# Altium footprint library 165mm-v1.PcbLib: 63 footprints (part 3 of 4)
Each footprint in its own frame and in the unit in brackets; x right, y up, seen from the top. Pads: shape width x height; smd on the part's side, far side on the other; paste and mask are expansions set on the pad; w line width, h text height; cw(c..) or ccw(c..) is an arc to the next point about the centre after c.
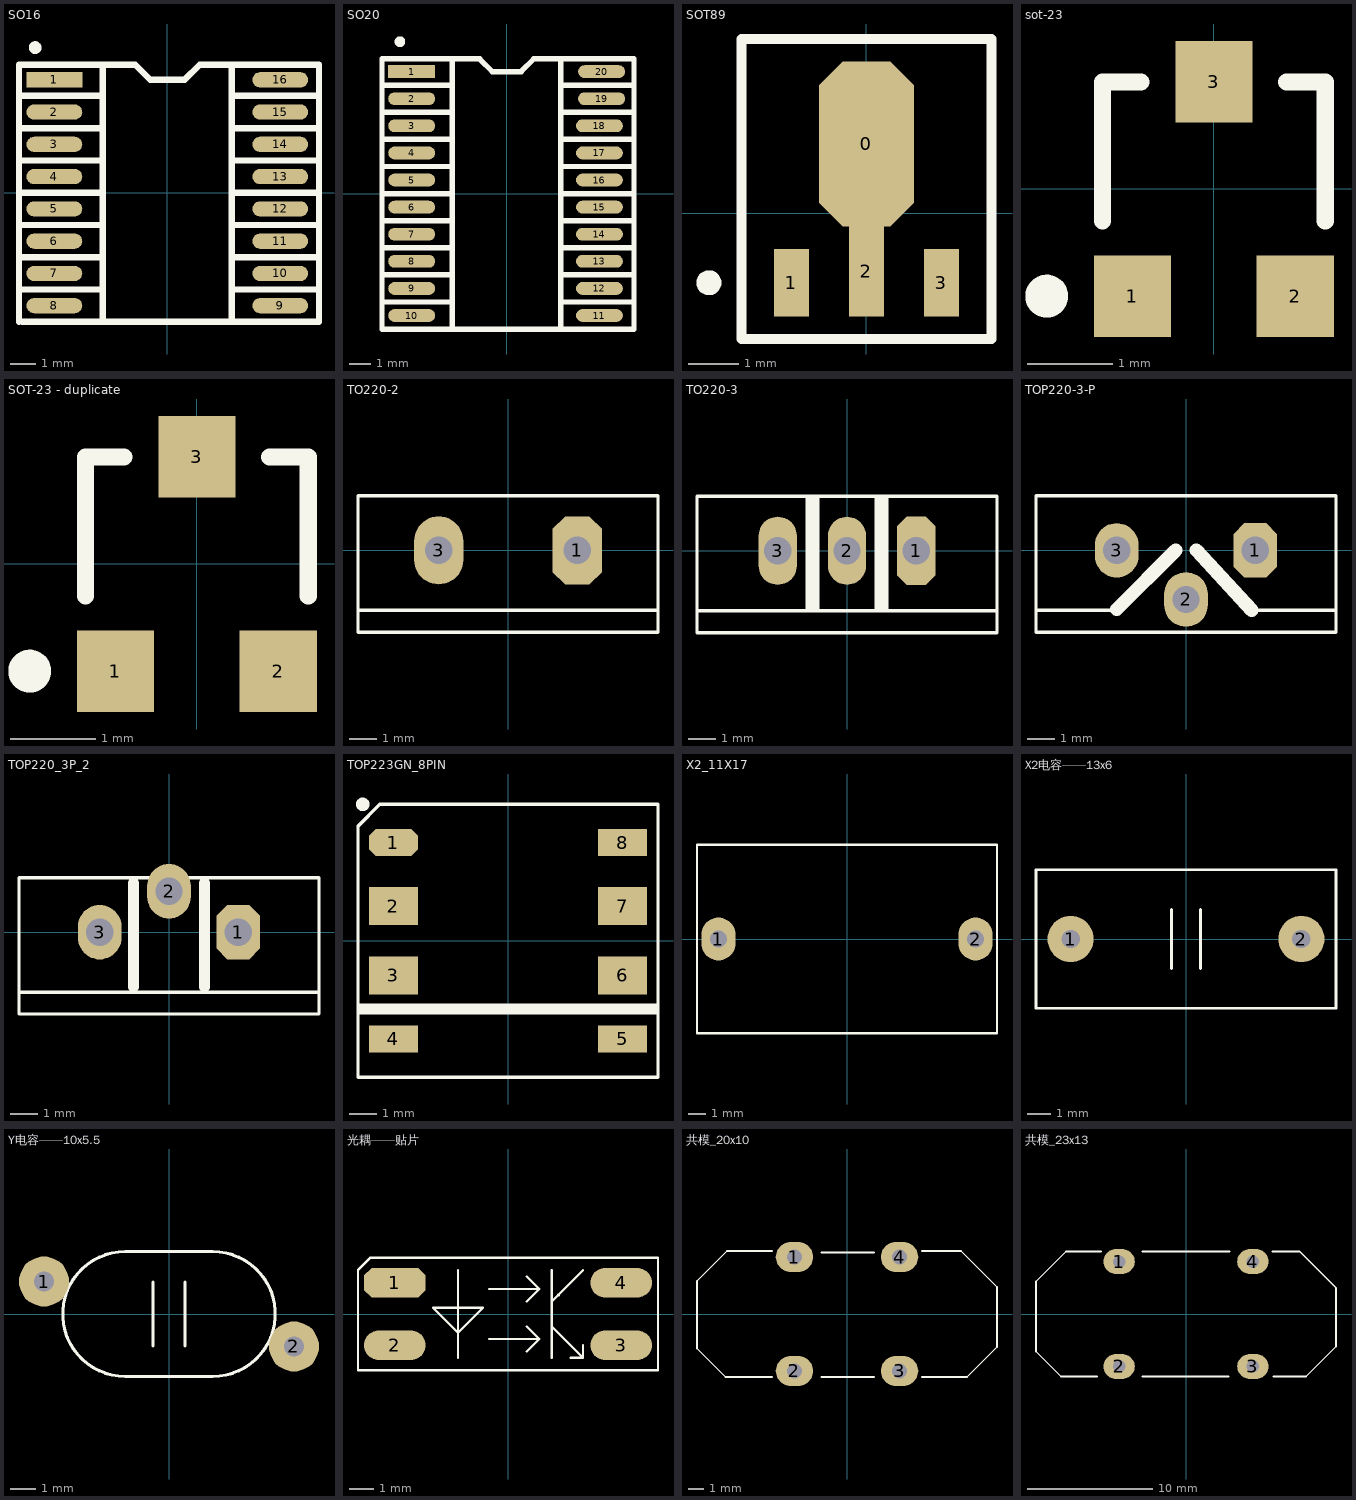
[diagram p2: the footprints below, top view; thin cyan lines are the x and y axes]

## SO16 [mm]
pads (16):
  rect 2.2x0.6 smd: 1(-4.447,4.445)
  oval 2.2x0.6 smd: 2(-4.447,3.175) 3(-4.447,1.905) 4(-4.447,0.635) 5(-4.447,-0.635) 6(-4.447,-1.905) 7(-4.447,-3.175) 8(-4.447,-4.445) 9(4.447,-4.445) 10(4.447,-3.175) 11(4.447,-1.905) 12(4.447,-0.635) 13(4.447,0.635) 14(4.447,1.905) 15(4.447,3.175) 16(4.447,4.445)
Top Overlay:
  circle w0.25: c-5.205,5.715 r0.125
  lines w0.254: -5.84,-5.08 -5.84,5.04 -2.538,5.04 ; -5.84,-3.81 -2.538,-3.81 ; -5.84,-2.54 -2.538,-2.54 ; -5.84,-1.27 -2.538,-1.27 ; -5.84,0 -2.538,0 ; -5.84,1.27 -2.538,1.27 ; -5.84,2.54 -2.538,2.54 ; -5.84,3.81 -2.538,3.81 ; -5.713,-5.08 -2.538,-5.08 ; 2.542,-3.81 5.971,-3.81 ; 2.542,-2.54 5.971,-2.54 ; 2.542,-1.27 5.971,-1.27 ; 2.542,0 5.971,0 ; 2.542,1.27 5.971,1.27 ; 2.542,2.54 5.971,2.54 ; 2.542,3.81 5.971,3.81 ; -2.538,-5.08 -2.538,5.04 ; -2.538,-5.08 2.542,-5.08 ; -2.538,5.04 -1.268,5.04 -0.673,4.445 0.677,4.445 1.272,5.04 2.542,5.04 ; 2.542,-5.08 5.971,-5.08 5.971,5.04 2.542,5.04 ; 2.542,-5.08 2.542,5.04

## SO20 [mm]
height 25
pads (20):
  rect 2.2x0.6 smd: 1(-4.45,5.715)
  oval 2.2x0.6 smd: 2(-4.45,4.445) 3(-4.45,3.175) 4(-4.45,1.905) 5(-4.45,0.635) 6(-4.45,-0.635) 7(-4.45,-1.905) 8(-4.45,-3.175) 9(-4.45,-4.445) 10(-4.45,-5.715) 11(4.35,-5.715) 12(4.35,-4.445) 13(4.35,-3.175) 14(4.35,-1.905) 15(4.35,-0.635) 16(4.35,0.635) 17(4.35,1.905) 18(4.35,3.175) 19(4.45,4.445) 20(4.45,5.715)
Top Overlay:
  circle w0.25: c-5.004,7.119 r0.125
  lines w0.254: -5.842,-5.08 -2.54,-5.08 ; -5.842,-2.54 -2.54,-2.54 ; -5.842,-1.27 -2.54,-1.27 ; -5.842,0 -2.54,0 ; -5.842,1.27 -2.54,1.27 ; -5.842,2.54 -2.54,2.54 ; -5.842,3.81 -2.54,3.81 ; -5.842,5.08 -2.54,5.08 ; -5.715,-3.81 -2.54,-3.81 ; 2.54,-5.08 5.969,-5.08 ; 2.54,-3.81 5.969,-3.81 ; 2.54,-2.54 5.969,-2.54 ; 2.54,-1.27 5.969,-1.27 ; 2.54,0 5.969,0 ; 2.54,1.27 5.969,1.27 ; 2.54,2.54 5.969,2.54 ; 2.54,3.81 5.969,3.81 ; 2.54,5.08 5.969,5.08 ; -2.54,-6.35 2.54,-6.35 ; -2.54,-6.35 -5.842,-6.35 -5.842,6.31 -2.54,6.31 ; -2.54,-6.35 -2.54,6.31 ; -2.54,6.31 -1.27,6.31 -0.675,5.715 0.675,5.715 1.27,6.31 2.54,6.31 ; 2.54,-6.35 5.969,-6.35 5.969,6.31 2.54,6.31 ; 2.54,-6.35 2.54,6.31

## SOT89 [mm] "SOT-89; Body 4.6 x 4.25 mm, inc. leads (LxW max)"
height 1.6
pads (4):
  oct 1.9x3.3 smd: 0(0,1.388)
  rect 0.7x1.35 smd: 1(-1.5,-1.388) 3(1.5,-1.388)
  rect 0.7x1.8 smd: 2(0,-1.162)
Top Overlay:
  circle w0.25: c-3.15,-1.388 r0.125
  lines w0.2: -2.5,-2.512 -2.5,3.487 2.5,3.487 2.5,-2.512 -2.5,-2.512

## sot-23 [mm] "SOT-23; 3 Leads; Body 3.0 x 2.6 mm, inc. leads (LxW max)"
height 1.1
pads (3):
  rect 0.9x0.95 smd: 1(-0.95,-1.25) 2(0.95,-1.25) 3(0,1.25)
Top Overlay:
  circle w0.25: c-1.95,-1.25 r0.125
  lines w0.2: -1.3,-0.375 -1.3,1.25 -0.85,1.25 ; 0.85,1.25 1.3,1.25 1.3,-0.375

## SOT-23 - duplicate [mm]
pads (3):
  rect 0.9x0.95 smd: 1(-0.95,-1.25) 2(0.95,-1.25) 3(0,1.25)
Top Overlay:
  circle w0.25: c-1.95,-1.25 r0.125
  lines w0.2: -1.3,-0.375 -1.3,1.25 -0.85,1.25 ; 0.85,1.25 1.3,1.25 1.3,-0.375

## TO220-2 [mm]
pads (2):
  oct 1.8x2.5 hole 1: 1(2.54,0)
  oval 1.8x2.5 hole 1: 3(-2.54,0)
Top Overlay:
  lines w0.127: -5.5,-2.2 5.5,-2.2 ; -5.5,-3 -5.5,2 5.5,2 5.5,-3 -5.5,-3

## TO220-3 [mm]
pads (3):
  oct 1.4x2.5 hole 1: 1(2.54,0)
  oval 1.4x2.5 hole 1: 2(0,0) 3(-2.54,0)
Top Overlay:
  rectangle: -1.524,-2.2 -1.016,2
  rectangle: 1.016,-2.2 1.524,2
  lines w0.127: -5.5,-2.2 5.5,-2.2 ; -5.5,-3 -5.5,2 5.5,2 5.5,-3 -5.5,-3
Bottom Overlay:
  rectangle: -1.524,-2.159 -1.016,2.032
  rectangle: 1.016,-2.159 1.524,2.032

## TOP220-3-P [mm]
pads (3):
  oct 1.6x2 hole 1: 1(2.54,0)
  oval 1.6x2 hole 1: 2(0,-1.8) 3(-2.54,0)
Top Overlay:
  lines w0.127: -5.5,-2.2 -2.54,-2.2 ; 2.413,-2.2 5.5,-2.2 ; -5.5,-3 -5.5,2 5.5,2 5.5,-3 -5.5,-3
  lines w0.5: -2.54,-2.159 -0.381,0 ; 0.381,0 2.413,-2.2
Bottom Overlay:
  lines w0.5: -2.54,-2.159 -0.381,0 ; 0.381,0 2.413,-2.2

## TOP220_3P_2 [mm]
pads (3):
  oct 1.6x2 hole 1: 1(2.54,0)
  oval 1.6x2 hole 1: 2(0,1.5) 3(-2.54,0)
Top Overlay:
  lines w0.127: -5.5,-2.2 -2.54,-2.2 5.5,-2.2 ; -5.5,-3 5.5,-3 5.5,2 -5.5,2 -5.5,-3
  lines w0.4: -1.3,-2 -1.3,1.8 ; 1.3,-2 1.3,1.8
Bottom Overlay:
  lines w0.4: -1.3,-2 -1.3,2 ; 1.3,-2 1.3,2

## TOP223GN_8PIN [mm]
pads (8):
  oct 1.8x1 smd: 1(-4.2,3.6)
  rect 1.8x1.4 smd: 2(-4.2,1.27) 3(-4.2,-1.27) 6(4.2,-1.27) 7(4.2,1.27)
  rect 1.8x1 smd: 4(-4.2,-3.6) 5(4.2,-3.6) 8(4.2,3.6)
Top Overlay:
  circle w0.25: c-5.325,5 r0.125
  rectangle: -5.5,-2.7 5.5,-2.3
  lines w0.127: -5.5,-5 5.5,-5 5.5,5 -4.7,5 -5.5,4.2 -5.5,-5

## X2_11X17 [mm]
pads (2):
  oval 2x2.5 hole 1: 1(-7.5,0) 2(7.5,0)
Top Overlay:
  lines w0.127: -8.75,-5.5 8.75,-5.5 8.75,5.5 -8.75,5.5 -8.75,-5.5

## X2电容——13x6 [mm]
height 25
pads (2):
  round 2 hole 0.8: 1(-5,0) 2(5,0)
Top Overlay:
  lines w0.127: -0.635,-1.27 -0.635,1.27 ; 0.635,-1.27 0.635,1.27 ; -6.5,-3 -6.5,3 6.5,3 6.5,-3 -6.5,-3

## Y电容——10x5.5 [mm]
height 25
pads (2):
  round 2 hole 0.8: 1(-5,1.3) 2(5,-1.3)
Top Overlay:
  lines w0.127: -0.635,-1.27 -0.635,1.27 ; 0.635,-1.27 0.635,1.27 ; -1.75,-2.5 cw(c-1.75,0) -1.75,2.5 1.75,2.5 cw(c1.75,0) 1.75,-2.5 -1.75,-2.5

## 光耦——贴片 [mm]
pads (4):
  oct 2.5x1.2 smd: 1(-4.6,1.27)
  oval 2.5x1.2 smd: 2(-4.6,-1.27) 3(4.6,-1.27) 4(4.6,1.27)
Top Overlay:
  lines w0.1: -2.032,-1.778 -2.032,1.778 ; -0.762,-1.016 1.27,-1.016 ; -0.762,1.016 1.27,1.016 ; 0.762,-1.524 1.27,-1.016 ; 0.762,-0.508 1.27,-1.016 ; 0.762,0.508 1.27,1.016 ; 0.762,1.524 1.27,1.016 ; 1.778,-1.778 1.778,1.778 ; 2.032,0.786 2.056,0.762 ; 2.54,-1.778 3.048,-1.778 ; 3.048,-1.27 3.048,-1.778 ; 3.048,1.778 1.778,0.508 1.778,-0.508 3.048,-1.778 ; -6.096,-2.29 -6.096,1.782 -5.588,2.29 6.096,2.29 6.096,-2.29 -6.096,-2.29 ; -3.048,0.254 -1.016,0.254 -2.032,-0.762 -3.048,0.254

## 共模_20x10 [mm]
height 25
pads (4):
  oval 2.5x2 hole 1: 1(-3.5,3.8) 2(-3.5,-3.8) 3(3.5,-3.8) 4(3.5,3.8)
Top Overlay:
  lines w0.127: -5,-4.2 -8.1,-4.2 -10,-2.3 -10,2.2 -8,4.2 -5,4.2 ; -1.7,-4.2 1.8,-4.2 ; -1.7,4.1 1.8,4.1 ; 5,-4.2 8,-4.2 10,-2.2 10,1.8 7.6,4.2 5,4.2

## 共模_23x13 [mm]
height 25
pads (4):
  oval 2.5x2 hole 1: 1(-5.35,4.2) 2(-5.35,-4.2) 3(5.35,-4.2) 4(5.35,4.2)
Top Overlay:
  lines w0.127: -7.1,-5 -10,-5 -12,-3 -12,2.6 -9.6,5 -6.8,5 ; -3.5,-5 3.4,-5 ; -3.5,5 3.5,5 ; 6.9,5 9.1,5 12,2.1 12,-2.6 9.6,-5 7,-5